# EAGLE library part ADV7513 (library Custom)
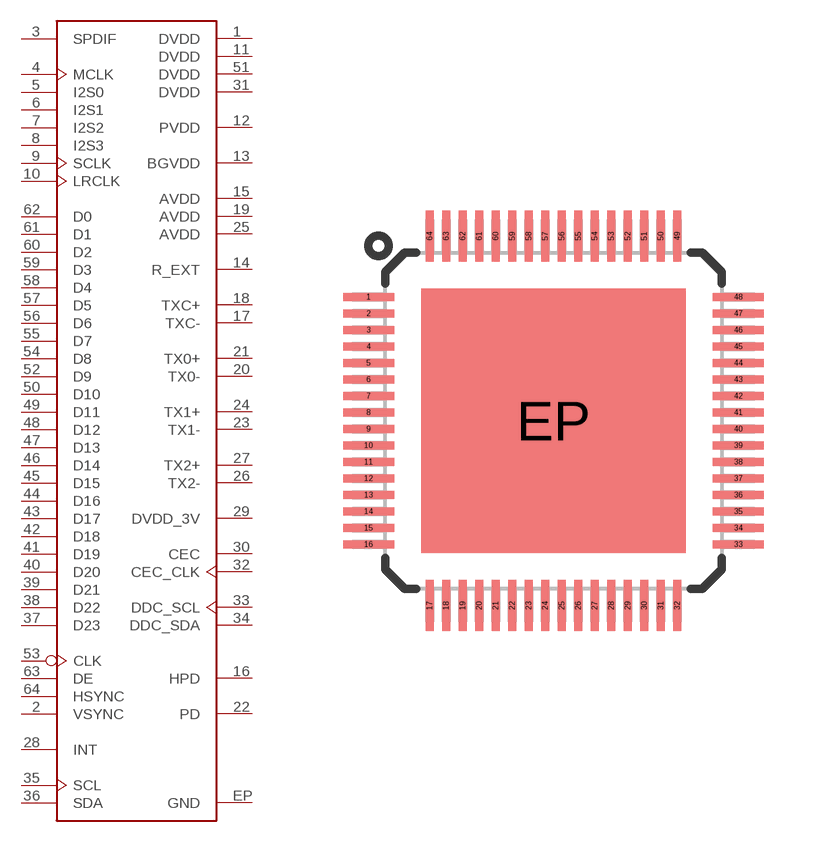
[diagram p10: symbol with the pads of PQFP-64; footprint PQFP-64]

Designator prefix -

## ADV7513  [PQFP-64]
1  DVDD
2  VSYNC
3  SPDIF
4  MCLK
5  I2S0
6  I2S1
7  I2S2
8  I2S3
9  SCLK
10  LRCLK
11  DVDD
12  PVDD
13  BGVDD
14  R_EXT
15  AVDD  pwr
16  HPD
17  TXC-
18  TXC+
19  AVDD  pwr
20  TX0-
21  TX0+
22  PD  in
23  TX1-
24  TX1+
25  AVDD  pwr
26  TX2-
27  TX2+
28  INT  out
29  DVDD_3V
30  CEC
31  DVDD
32  CEC_CLK  in
33  DDC_SCL
34  DDC_SDA
35  SCL
36  SDA
37  D23  in
38  D22  in
39  D21  in
40  D20  in
41  D19  in
42  D18  in
43  D17  in
44  D16  in
45  D15  in
46  D14  in
47  D13  in
48  D12  in
49  D11  in
50  D10  in
51  DVDD
52  D9  in
53  CLK
54  D8  in
55  D7  in
56  D6  in
57  D5  in
58  D4  in
59  D3  in
60  D2  in
61  D1  in
62  D0  in
63  DE
64  HSYNC
EP  GND  pwr

## Footprint PQFP-64 (pad centres in mm)
smd 1.55 x 0.25: 1 -5.6,3.75; 2 -5.6,3.25; 3 -5.6,2.75; 4 -5.6,2.25; 5 -5.6,1.75; 6 -5.6,1.25; 7 -5.6,0.75; 8 -5.6,0.25; 9 -5.6,-0.25; 10 -5.6,-0.75; 11 -5.6,-1.25; 12 -5.6,-1.75; 13 -5.6,-2.25; 14 -5.6,-2.75; 15 -5.6,-3.25; 16 -5.6,-3.75; 33 5.6,-3.75; 34 5.6,-3.25; 35 5.6,-2.75; 36 5.6,-2.25; 37 5.6,-1.75; 38 5.6,-1.25; 39 5.6,-0.75; 40 5.6,-0.25; 41 5.6,0.25; 42 5.6,0.75; 43 5.6,1.25; 44 5.6,1.75; 45 5.6,2.25; 46 5.6,2.75; 47 5.6,3.25; 48 5.6,3.75
smd 0.25 x 1.55: 17 -3.75,-5.6; 18 -3.25,-5.6; 19 -2.75,-5.6; 20 -2.25,-5.6; 21 -1.75,-5.6; 22 -1.25,-5.6; 23 -0.75,-5.6; 24 -0.25,-5.6; 25 0.25,-5.6; 26 0.75,-5.6; 27 1.25,-5.6; 28 1.75,-5.6; 29 2.25,-5.6; 30 2.75,-5.6; 31 3.25,-5.6; 32 3.75,-5.6; 49 3.75,5.6; 50 3.25,5.6; 51 2.75,5.6; 52 2.25,5.6; 53 1.75,5.6; 54 1.25,5.6; 55 0.75,5.6; 56 0.25,5.6; 57 -0.25,5.6; 58 -0.75,5.6; 59 -1.25,5.6; 60 -1.75,5.6; 61 -2.25,5.6; 62 -2.75,5.6; 63 -3.25,5.6; 64 -3.75,5.6
smd 8 x 8: EP 0,0